# Altium integrated library FT231X_BRK.IntLib: 8 symbols
Pins are listed as number, name and electrical type; pins without a type are passive.

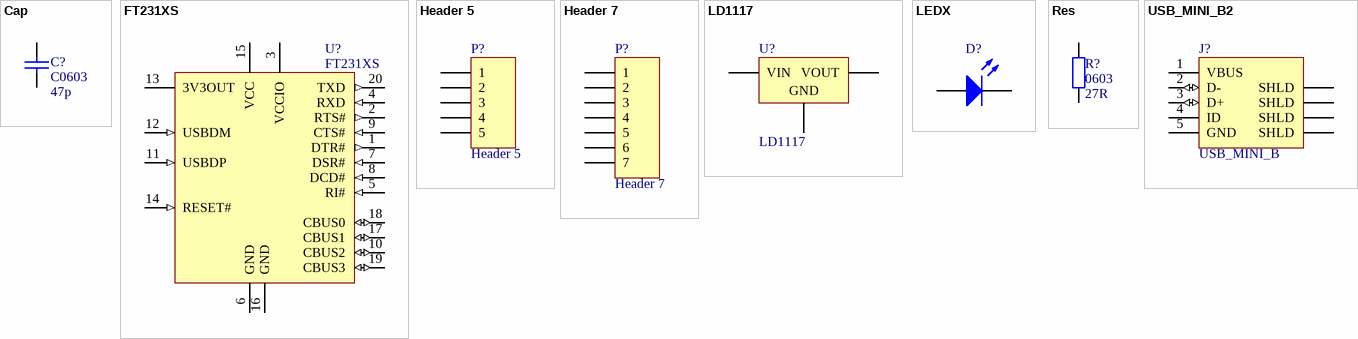
[diagram p0: symbols Cap to USB_MINI_B2]

## Cap
designator C?, comment 47p
Generic capacitor; Value: 47p
footprint C0402 (SMD Capacitor, Inch 0402, Metric 1005.)
footprint C0603 (SMD Capacitor, Inch 0603, Metric 1608.)
footprint C0805 (SMD Capacitor, Inch 0805, Metric 2012.)
footprint C1206 (SMD Capacitor, Inch 1206, Metric 3216.)
footprint C1210 (SMD Capacitor, Inch 1210, Metric 3225.)
footprint Cap 0.2in
pins: 1, 2

## FT231XS
designator U?
USB to Full-Handshake UART Interface Chip, UHCI/OHCI/EHCI Compatible, USB 2.0 Compatible, -40 to +85 degC, 20-Pin SSOP, Pb-Free, Tube; Manufacturer: FTDI; PartNumber: FT231XS-U; DatasheetVersion: ver 1.2, Feb-2013; PackageVersion: Feb-13; PackageReference: SSOP-20; PackageDescription: 20-Pin Small Outline Package, 8.6 x 3.9 mm Body, 0.635 mm Pitch; Code_JEDEC: MO-137-AD; ComponentLink1Description: Manufacturer URL; ComponentLink1URL: http://www.ftdichip.com/; ComponentLink2Description: Datasheet; ComponentLink2URL: http://www.ftdichip.com/Support/Documents/DataSheets/ICs/DS_FT231X.pdf; ComponentLink3Description: FT231X Product Page; ComponentLink3URL: www.ftdichip.com/Products/ICs/FT231X.html
footprint SSOP20_M (SSOP, 20-Leads, Body 6.6x4.5mm, Pitch 0.65mm, IPC Low Density)
pins: 1 DTR# (out) "Data Terminal Ready Control Output / Handshake Signal.", 2 RTS# (out) "Request to Send Control Output / Handshake Signal.", 3 VCCIO (power) "1V8 -3V3 supply for the IO cells.", 4 RXD (in) "Receiving Asynchronous Data Input.", 5 RI# (in) "Ring Indicator input for remote wake up.", 6 GND (power) "0V Ground input.", 7 DSR# (in) "Data Set Ready Control Input / Handshake Signal.", 8 DCD# (in) "Data Carrier Detect Control Input.", 9 CTS# (in) "Clear To Send Control Input / Handshake Signal.", 10 CBUS2 (io) "Configurable CBUS I/O Pin. Function of this pin is configured in the device MTP memory. The default configuration is TXLED#.", 11 USBDP (in) "USB Data Signal Plus.", 12 USBDM (in) "USB Data Signal Minus.", 13 3V3OUT (power) "3V3 output at 50mA. May be used to power VCCIO. When VCC is 3V3, pin 13 is an input pin.", 14 RESET# (in) "Reset input (active low).", 15 VCC (power) "5 V (or 3V3) supply to IC.", 16 GND (power) "0V Ground input.", 17 CBUS1 (io) "Configurable CBUS I/O Pin. Function of this pin is configured in the device MTP memory. The default configuration is RXLED#.", 18 CBUS0 (io) "Configurable CBUS I/O Pin. Function of this pin is configured in the device MTP memory. The default configuration is TXDEN.", 19 CBUS3 (io) "Configurable CBUS I/O Pin. Function of this pin is configured in the device MTP memory. The default configuration is SLEEP#.", 20 TXD (out) "Transmit Asynchronous Data Output."

## Header 5
designator P?
Header, 5-Pin; LatestRevisionDate: 17-Jul-2002; LatestRevisionNote: Re-released for DXP Platform.; Publisher: Altium Limited
signal-integrity model Connector
footprint HEADER 1X5 FEMALE (Connector; Header; 5 Position, Female)
footprint HEADER 1X5H MALE (Connector; Header; 5 Position; Right Angle; Male)
footprint HEADER 1X5 MALE (Connector; Header; 5 Position, Male)
pins: 1, 2, 3, 4, 5

## Header 7
designator P?
Header, 7-Pin; LatestRevisionDate: 17-Jul-2002; LatestRevisionNote: Re-released for DXP Platform.; Publisher: Altium Limited
footprint HEADER 1X7 MALE (Connector; Header; 7 Position; Male)
signal-integrity model Connector
pins: 1, 2, 3, 4, 5, 6, 7

## LD1117
designator U?
Low drop positive voltage regulator; ComponentLink1URL: http://www.st.com/web/en/resource/technical/document/datasheet/CD00000544.pdf; ComponentLink1Description: Datasheet
footprint TO-252 (JEDEC standard. TO-252, variant AA.); pin to pad 2>4 5>4 6>4
footprint SOT-223_M (SOT223, 4-Leads, Body 6.5x3.5mm, Pitch 2.3mm, Lead Span 7mm, IPC Low Density); pin to pad 4>2 5>2 6>2
footprint SOIC-8_M (SOIC, 8-Leads, Body 4.9x3.9mm, Pitch 1.27mm, IPC Low Density); pin to pad 3>4 4>3 5>6 6>7
pins: 1 GND (power), 2 VOUT (power), 3 VIN (power), 4 VOUT (power), 5 VOUT (power), 6 VOUT (power)

## LEDX
designator D?  (value not drawn)
Typical LED
simulation model LED0 (Diode)
footprint LED 0805 Yellow
footprint LED 0805 Blue
footprint LED 0805 GREEN
footprint LED 0805 RED (SODFL, 2-Leads, Body 1,25x2,00mm, IPC Medium Density)
pins: 1 A, 2 K

## Res
designator R?, comment 27R
Generic resistor; Value: 27R
footprint 0402 (SMD Resistor, Inch 0402, Metric 1005.)
footprint 0603 (SMD Resistor, Inch 0603, Metric 1608.)
footprint 0805 (SMD Resistor, Inch 0805, Metric 2012.)
footprint 1206 (SMD Resistor, Inch 1206, Metric 3216.)
pins: 1, 2

## USB_MINI_B2
designator J?, comment USB_MINI_B
USB On-The-Go (OTG) Mini-B Receptacle
footprint USB_Mini_B_9.3x7.7 (Mini USB Connector, 9.3x7.7mm, SMT, Righer Angle)
pins: 1 VBUS (power), 2 D- (io), 3 D+ (io), 4 ID, 5 GND (power), MH1 SHLD, MH2 SHLD, MH3 SHLD, MH4 SHLD